# Altium footprint library LCD.PcbLib: 1 footprints
Each footprint in its own frame and in the unit in brackets; x right, y up, seen from the top. Pads: shape width x height; smd on the part's side, far side on the other; paste and mask are expansions set on the pad; w line width, h text height; cw(c..) or ccw(c..) is an arc to the next point about the centre after c.
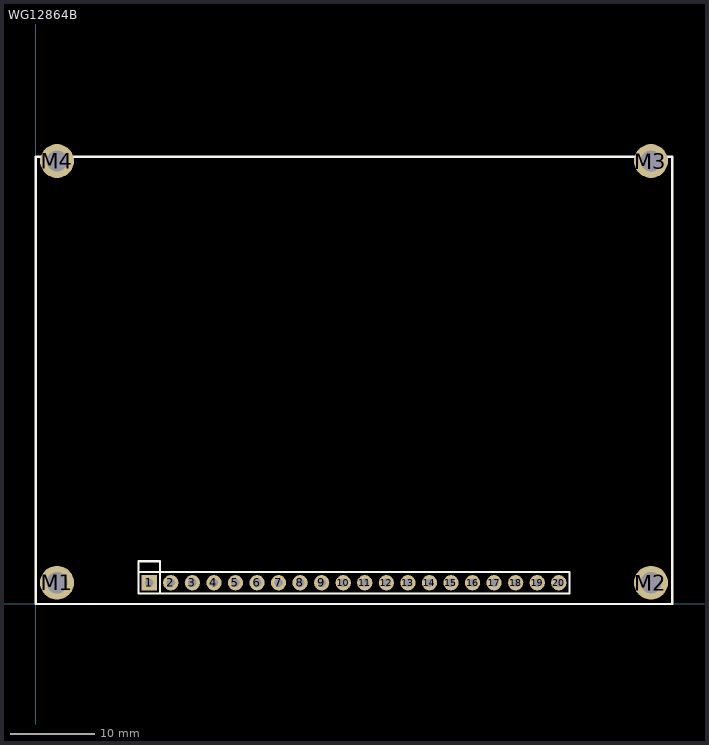
[diagram p0: the footprint, top view; thin cyan lines are the x and y axes]

## WG12864B [mm] "128x64-GLCD"
pads (24):
  rect 1.8x1.8 hole 1: 1(13.37,2.5)
  round 1.8 hole 1: 2(15.91,2.5) 3(18.45,2.5) 4(20.99,2.5) 5(23.53,2.5) 6(26.07,2.5) 7(28.61,2.5) 8(31.15,2.5) 9(33.69,2.5) 10(36.23,2.5) 11(38.77,2.5) 12(41.31,2.5) 13(43.85,2.5) 14(46.39,2.5) 15(48.93,2.5) 16(51.47,2.5) 17(54.01,2.5) 18(56.55,2.5) 19(59.09,2.5) 20(61.63,2.5)
  round 4 hole 2.5: M1(2.5,2.5) M2(72.5,2.5) M3(72.5,52.2) M4(2.5,52.2)
Top Overlay:
  lines w0.254: 14.64,1.23 14.64,3.77 14.64,5.04 12.1,5.04 12.1,3.77 ; 12.1,3.77 62.9,3.77 62.9,1.23 12.1,1.23 12.1,2.5 12.1,3.77 ; 0,0 75,0 75,52.7 0,52.7 0,0
3D body: height 0.25, standoff 0, extent 64.73,20.28 64.73,20.28
3D body "User Library-GRAPHIC LCD WG12864B.step": height 15.9, standoff 6.97, extent 0,0 75,52.7
3D body: height 0.25, standoff 0, extent 2.5,32.98 2.5,32.98
3D body: height 0.25, standoff 0, extent 0,52.7 0,52.7